# Altium schematic symbol library CONN_HDR_1X1.SchLib: 1 symbol
Pins are listed as number, name and electrical type; pins without a type are passive.

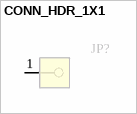
[diagram p0: symbol CONN_HDR_1X1]

## CONN_HDR_1X1
designator JP?
HDR 1X1 TH -- 330H AU 100L
pins: 1